# Altium footprint library PcbLib1.PcbLib: 1 footprints
Each footprint in its own frame and in the unit in brackets; x right, y up, seen from the top. Pads: shape width x height; smd on the part's side, far side on the other; paste and mask are expansions set on the pad; w line width, h text height; cw(c..) or ccw(c..) is an arc to the next point about the centre after c.
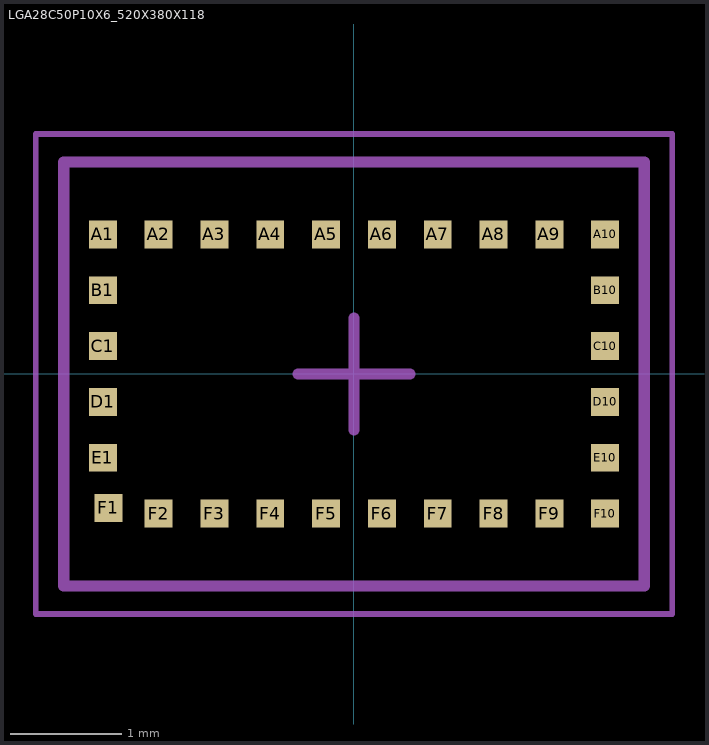
[diagram p0: the footprint, top view; thin cyan lines are the x and y axes]

## LGA28C50P10X6_520X380X118 [mm] "LGA, 28-Leads, Body 5,20x3,80mmx1,18mm, Pitch 0,50mm"
height 1.18
pads (28):
  rect 0.25x0.25 smd: A1(-2.25,1.25) A2(-1.75,1.25) A3(-1.25,1.25) A4(-0.75,1.25) A5(-0.25,1.25) A6(0.25,1.25) A7(0.75,1.25) A8(1.25,1.25) A9(1.75,1.25) A10(2.25,1.25) B1(-2.25,0.75) B10(2.25,0.75) C1(-2.25,0.25) C10(2.25,0.25) D1(-2.25,-0.25) D10(2.25,-0.25) E1(-2.25,-0.75) E10(2.25,-0.75) F1(-2.2,-1.2) F2(-1.75,-1.25) F3(-1.25,-1.25) F4(-0.75,-1.25) F5(-0.25,-1.25) F6(0.25,-1.25) F7(0.75,-1.25) F8(1.25,-1.25) F9(1.75,-1.25) F10(2.25,-1.25)
Mechanical 13:
  lines w0.1: -2.6,-1.9 2.6,-1.9 2.6,1.9 -2.6,1.9 -2.6,-1.9
Mechanical 15:
  lines w0.05: -2.85,-2.15 2.85,-2.15 2.85,2.15 -2.85,2.15 -2.85,-2.15
  lines w0.1: -0.5,0 0.5,0 ; 0,-0.5 0,0.5
3D body: height 1.18, standoff 0.13, extent -2.6,-1.9 2.6,1.9